# Altium footprint library diode.PcbLib: 49 footprints (part 4 of 4)
Each footprint in its own frame and in the unit in brackets; x right, y up, seen from the top. Pads: shape width x height; smd on the part's side, far side on the other; paste and mask are expansions set on the pad; w line width, h text height; cw(c..) or ccw(c..) is an arc to the next point about the centre after c.
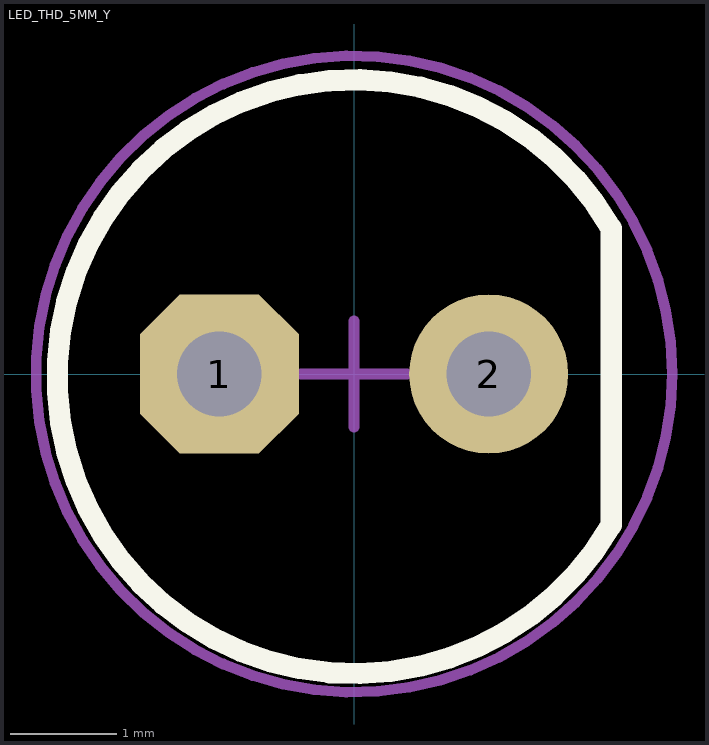
[diagram p3: the footprint, top view; thin cyan lines are the x and y axes]

## LED_THD_5MM_Y [mm] "Yellow Leaded Led, 5 mm"
height 12
pads (2):
  oct 1.5x1.5 hole 0.8: 1(-1.27,0)
  round 1.5 hole 0.8: 2(1.27,0)
Top Overlay:
  lines w0.2: 2.425,-1.425 cw(c0,-0.025) 2.425,1.375 2.425,-1.425
Mechanical 1:
  circle w0.1: c0,0 r3
Mechanical 15:
  circle w0.1: c0,0 r3
  lines w0.1: -0.5,0 0.5,0 ; 0,-0.5 0,0.5
3D body "5mm_led_yell.STEP": height 14.5, standoff -1, extent -3,-3 3,3